# EAGLE library part PLS-7 (library gost_con_pls-pld-pbs-pbd)
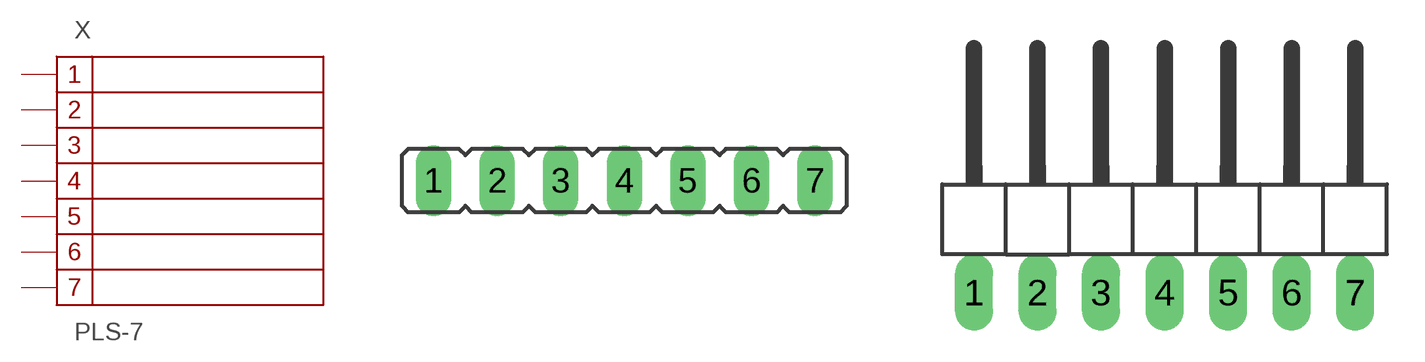
[diagram p4: symbol with the pads of PLS-7; footprints PLS-7, PLS-7R]

Designator prefix X

## PLS-7  [PLS-7]
1  1
2  2
3  3
4  4
5  5
6  6
7  7

## PLS-7R  [PLS-7R]
Pads as for PLS-7

## Footprint PLS-7 (pad centres in mm)
drill 0.914 long: 1 -2.54,0; 2 0,0; 3 2.54,0; 4 5.08,0; 5 7.62,0; 6 10.16,0; 7 12.7,0

## Footprint PLS-7R (pad centres in mm)
drill 1.016 long: 1 -6.35,0; 2 -3.81,0; 3 -1.27,0; 4 1.27,0; 5 3.81,0; 6 6.35,0; 7 8.89,0